# Altium schematic symbol library WE-FB.SchLib: 63 symbols (part 1 of 2)
Pins are listed as number, name and electrical type; pins without a type are passive.

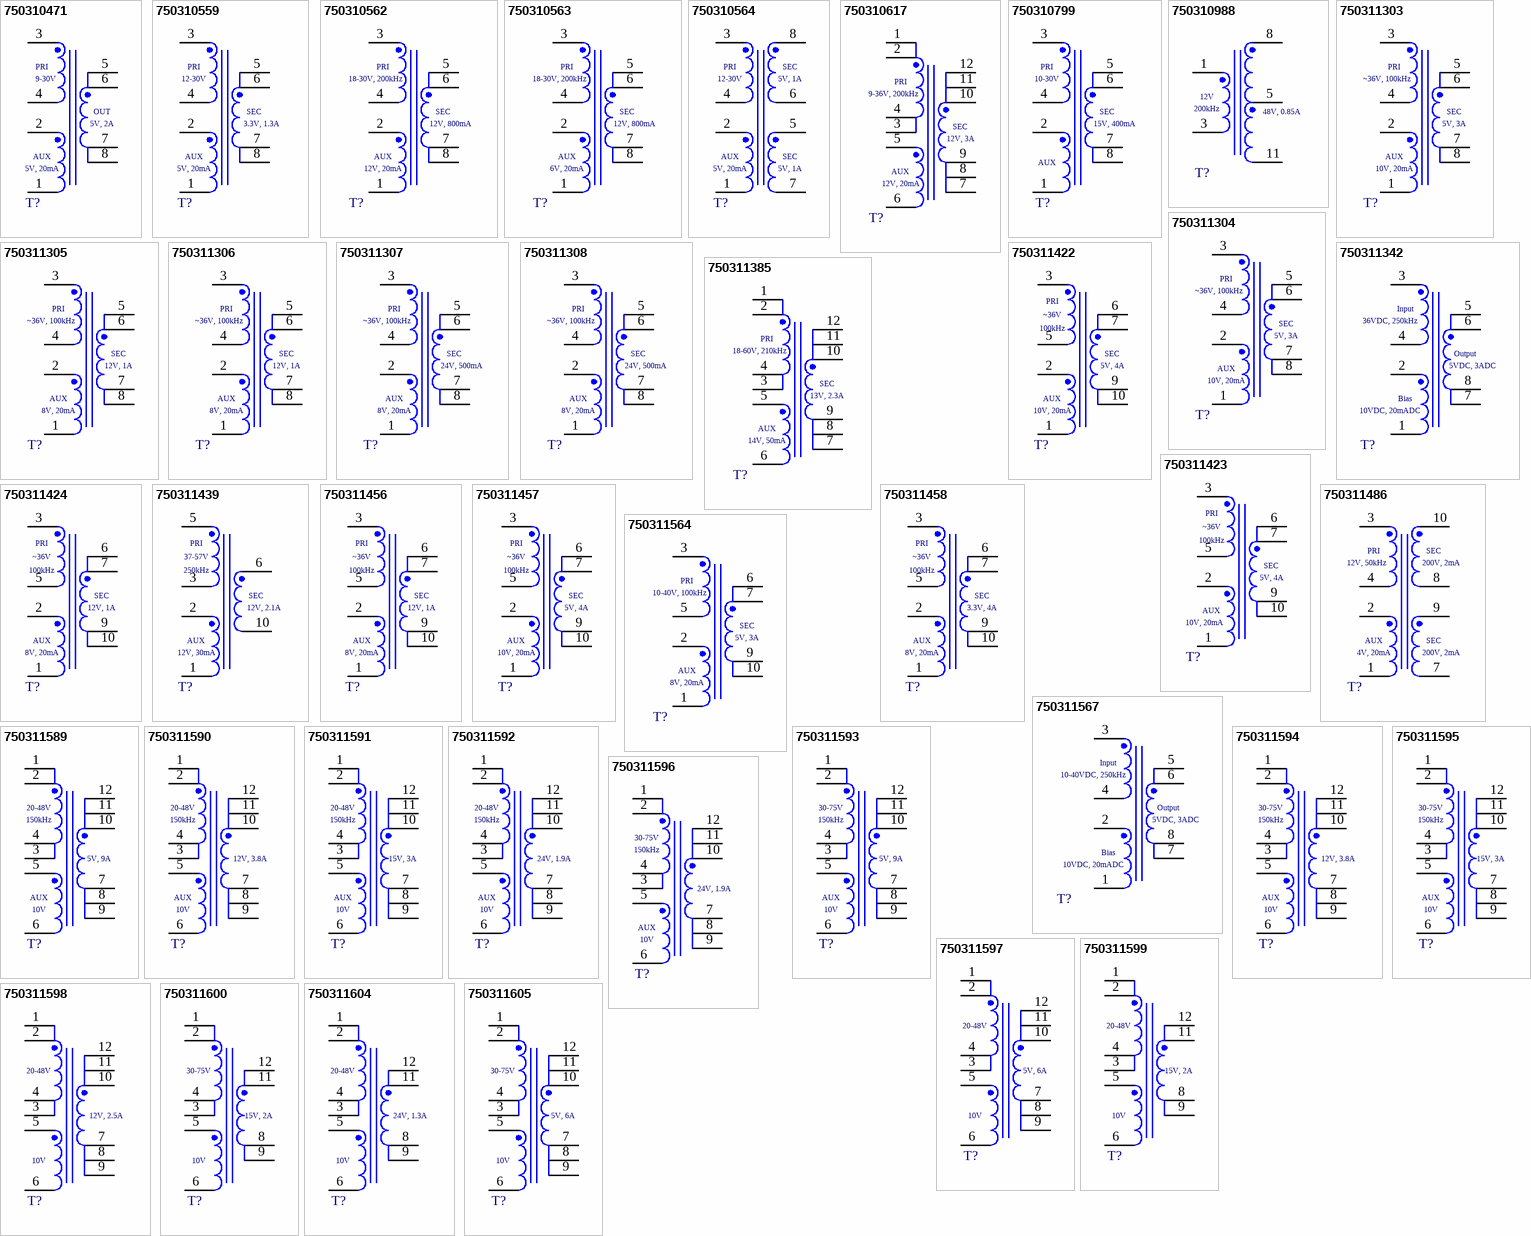
[diagram p0: symbols 750310471 to 750311605]

## 750310471
designator T?, comment 9-30Vin, Uo1 = 5V/2A  (value not drawn)
WE-FB Flyback Transformer suitable for LT3573 & LT3575, SMT, EP10, 9-30Vin, Uo1 = 5V/2A, 10W; Manufacturer Part Number: 750310471; Manufacturer: Wurth Elektronik; Auxiliary Voltage: 5V; Inductance: 25uH; Input Voltage: 9-30VDC; Insulation Test Voltage: 1500VAC; Leakage Inductance: 0.43uH; Output Current 1: 2A; Saturation Current: 2.6A; Turns Ratio: 3:1:1; Category: Transformers For DC-DC Converter; Match Code: WE-FB; ComponentLink1Description: Website Link; ComponentLink1URL: https://www.we-online.com/redexpert/article/750310471?ad; ComponentLink2Description: Datasheet Link; ComponentLink2URL: https://www.we-online.com/redexpert/spec/750310471?ad; Mount: Surface Mount; Operating Temperature Max: 125°C; Operating Temperature Min: -40°C; Packaging: Tape and Reel; Case/Size Code: EP10; Length: 15.24mm; Width: 13.34mm; Height: 11.43mm; IC Reference: LT3573 & LT3575; Output Power: 10W; Output Voltage 1: 5V
footprint WE-FB_EP10
simulation model 750310471
pins: 1, 2, 3, 4, 5, 6, 7, 8
text: 9-30V; PRI; OUT; 5V, 2A; AUX; 5V, 20mA

## 750310559
designator T?, comment 12-30Vin, Uo1 = 3.3V/1.3A  (value not drawn)
WE-FB Flyback Transformer suitable for LT3573 & LT3575, SMT, EP10, 12-30Vin, Uo1 = 3.3V/1.3A, 4.3W; Manufacturer Part Number: 750310559; Manufacturer: Wurth Elektronik; Auxiliary Voltage: 5V; Inductance: 24uH; Input Voltage: 12-30VDC; Insulation Test Voltage: 1500VAC; Leakage Inductance: 0.5uH; Output Current 1: 1.3A; Output Voltage 1: 3.3V; Saturation Current: 2.1A; Turns Ratio: 4:1:1; Category: Transformers For DC-DC Converter; Match Code: WE-FB; ComponentLink1Description: Website Link; ComponentLink1URL: https://www.we-online.com/redexpert/article/750310559?ad; ComponentLink2Description: Datasheet Link; ComponentLink2URL: https://www.we-online.com/redexpert/spec/750310559?ad; Mount: Surface Mount; Operating Temperature Max: 125°C; Operating Temperature Min: -40°C; Packaging: Tape and Reel; Case/Size Code: EP10; Length: 15.24mm; Width: 13.34mm; Height: 11.43mm; IC Reference: LT3573 & LT3575; Output Power: 4.3W
footprint WE-FB_EP10
simulation model 750310559
pins: 1, 2, 3, 4, 5, 6, 7, 8
text: PRI; 12-30V; SEC; 3.3V, 1.3A; AUX; 5V, 20mA

## 750310562
designator T?, comment 18-30Vin, Uo1 = 12V/0.8A  (value not drawn)
WE-FB Flyback Transformer suitable for LT3573 & LT3575, SMT, EP10, 18-30Vin, Uo1 = 12V/0.8A, 10W; Manufacturer Part Number: 750310562; Manufacturer: Wurth Elektronik; Auxiliary Voltage: 12V; Inductance: 25uH; Input Voltage: 18-30VDC; Insulation Test Voltage: 1500VAC; Leakage Inductance: 0.5uH; Output Current 1: 0.8A; Saturation Current: 2.8A; Turns Ratio: 2:1:1; Category: Transformers For DC-DC Converter; Match Code: WE-FB; ComponentLink1Description: Website Link; ComponentLink1URL: https://www.we-online.com/redexpert/article/750310562?ad; ComponentLink2Description: Datasheet Link; ComponentLink2URL: https://www.we-online.com/redexpert/spec/750310562?ad; Mount: Surface Mount; Operating Temperature Max: 125°C; Operating Temperature Min: -40°C; Packaging: Tape and Reel; Case/Size Code: EP10; Length: 15.24mm; Width: 13.34mm; Height: 11.43mm; IC Reference: LT3573 & LT3575; Output Power: 10W; Output Voltage 1: 12V
footprint WE-FB_EP10
simulation model 750310562
pins: 1, 2, 3, 4, 5, 6, 7, 8
text: 18-30V, 200kHz; PRI; SEC; 12V, 800mA; AUX; 12V, 20mA

## 750310563
designator T?, comment 18-30Vin, Uo1 = 12V/0.8A  (value not drawn)
WE-FB Flyback Transformer suitable for LT3573 & LT3575, SMT, EP10, 18-30Vin, Uo1 = 12V/0.8A, 5W; Manufacturer Part Number: 750310563; Manufacturer: Wurth Elektronik; Auxiliary Voltage: 6V; Inductance: 25uH; Input Voltage: 18-30VDC; Insulation Test Voltage: 1500VAC; Leakage Inductance: 0.5uH; Output Current 1: 0.8A; Output Voltage 1: 12V; Saturation Current: 2.8A; Turns Ratio: 1:1:0.5; Category: Transformers For DC-DC Converter; Match Code: WE-FB; ComponentLink1Description: Website Link; ComponentLink1URL: https://www.we-online.com/redexpert/article/750310563?ad; ComponentLink2Description: Datasheet Link; ComponentLink2URL: https://www.we-online.com/redexpert/spec/750310563?ad; Mount: Surface Mount; Operating Temperature Max: 125°C; Operating Temperature Min: -40°C; Packaging: Tape and Reel; Case/Size Code: EP10; Length: 15.24mm; Width: 13.34mm; Height: 11.43mm; IC Reference: LT3573 & LT3575; Output Power: 5W
footprint WE-FB_EP10
simulation model 750310563
pins: 1, 2, 3, 4, 5, 6, 7, 8
text: 18-30V, 200kHz; PRI; SEC; 12V, 800mA; AUX; 6V, 20mA

## 750310564
designator T?, comment 12-30Vin, Uo1 = 5V/1A, Uo2 = 5V/1A  (value not drawn)
WE-FB Flyback Transformer suitable for LT3574 & LT3573 & LT3575, SMT, EP10, 12-30Vin, Uo1 = 5V/1A, Uo2 = 5V/1A, 10W; Manufacturer Part Number: 750310564; Manufacturer: Wurth Elektronik; Auxiliary Voltage: 5V; Inductance: 63uH; Input Voltage: 12-30VDC; Insulation Test Voltage: 1500VAC; Leakage Inductance: 0.6uH; Output Current 1: 1A; Saturation Current: 1.45A; Turns Ratio: 3:1:1:1; Category: Transformers For DC-DC Converter; Match Code: WE-FB; ComponentLink1Description: Website Link; ComponentLink1URL: https://www.we-online.com/redexpert/article/750310564?ad; ComponentLink2Description: Datasheet Link; ComponentLink2URL: https://www.we-online.com/redexpert/spec/750310564?ad; Mount: Surface Mount; Operating Temperature Max: 125°C; Operating Temperature Min: -40°C; Packaging: Tape and Reel; Case/Size Code: EP10; Length: 15.24mm; Width: 13.34mm; Height: 11.43mm; IC Reference: LT3574 & LT3573 & LT3575; Output Current 2: 1A; Output Power: 10W; Output Voltage 1: 5V; Output Voltage 2: 5V
footprint WE-FB_EP10
simulation model 750310564
pins: 1, 2, 3, 4, 5, 6, 7, 8
text: PRI; 12-30V; SEC; 5V, 1A; AUX; 5V, 20mA

## 750310617
designator T?, comment 9-36Vin, Uo1 = 12V/3A  (value not drawn)
WE-FB Flyback Transformer suitable for LT3748, SMT, EFD20, 9-36Vin, Uo1 = 12V/3A, 36W; Manufacturer Part Number: 750310617; Manufacturer: Wurth Elektronik; Auxiliary Voltage: 12V; Inductance: 4.5uH; Input Voltage: 9-36VDC; Insulation Test Voltage: 1875VAC; Leakage Inductance: 0.15uH; Output Current 1: 3A; Saturation Current: 14A; Turns Ratio: 1:1.16:1.16; Category: Transformers For DC-DC Converter; Match Code: WE-FB; ComponentLink1Description: Website Link; ComponentLink1URL: https://www.we-online.com/redexpert/article/750310617?ad; ComponentLink2Description: Datasheet Link; ComponentLink2URL: https://www.we-online.com/redexpert/spec/750310617?ad; Mount: Surface Mount; Operating Temperature Max: 125°C; Operating Temperature Min: -40°C; Packaging: Tape and Reel; Case/Size Code: EFD20; Length: 29.08mm; Width: 23.11mm; Height: 11.43mm; IC Reference: LT3748; Output Power: 36W; Output Voltage 1: 12V
footprint WE-FB_EFD20
simulation model 750310617
pins: 1, 2, 3, 4, 5, 6, 7, 8, 9, 10, 11, 12
text: 9-36V, 200kHz; PRI; 12V, 3A; SEC; 12V, 20mA; AUX

## 750310799
designator T?, comment 10-30Vin, Uo1 = 15V/0.4A  (value not drawn)
WE-FB Flyback Transformer suitable for LT3573, SMT, EP7, 10-30Vin, Uo1 = 15V/0.4A, 6W; Manufacturer Part Number: 750310799; Manufacturer: Wurth Elektronik; Auxiliary Voltage: 5V; Inductance: 25uH; Input Voltage: 10-30VDC; Insulation Test Voltage: 1500VAC; Leakage Inductance: 0.125uH; Output Current 1: 0.4A; Output Voltage 1: 15V; Saturation Current: 2A; Turns Ratio: 1:1:0.333; Category: Transformers For DC-DC Converter; Match Code: WE-FB; ComponentLink1Description: Website Link; ComponentLink1URL: https://www.we-online.com/redexpert/article/750310799?ad; ComponentLink2Description: Datasheet Link; ComponentLink2URL: https://www.we-online.com/redexpert/spec/750310799?ad; Mount: Surface Mount; Operating Temperature Max: 125°C; Operating Temperature Min: -40°C; Packaging: Tape and Reel; Case/Size Code: EP7; Length: 9.14mm; Width: 9.78mm; Height: 10.54mm; IC Reference: LT3573; Output Power: 6W
footprint WE-FB_EP7
simulation model 750310799
pins: 1, 2, 3, 4, 5, 6, 7, 8
text: PRI; 10-30V; SEC; 15V, 400mA; AUX

## 750310988
designator T?, comment 12Vin, Uo1 = 48V/0.85A  (value not drawn)
WE-FB Flyback Transformer suitable for LT3748, SMT, EFD25, 12Vin, Uo1 = 48V/0.85A, 40W; Manufacturer Part Number: 750310988; Manufacturer: Wurth Elektronik; Inductance: 14uH; Input Voltage: 12VDC; Insulation Test Voltage: 1500VAC; Leakage Inductance: 0.2uH; Output Current 1: 0.85A; Output Voltage 1: 48V; Saturation Current: 15A; Turns Ratio: 1:4.42; Category: Transformers For DC-DC Converter; Match Code: WE-FB; ComponentLink1Description: Website Link; ComponentLink1URL: https://www.we-online.com/redexpert/article/750310988?ad; ComponentLink2Description: Datasheet Link; ComponentLink2URL: https://www.we-online.com/redexpert/spec/750310988?ad; Mount: Surface Mount; Operating Temperature Max: 125°C; Operating Temperature Min: -40°C; Packaging: Tape and Reel; Case/Size Code: EFD25; Length: 32.31mm; Width: 27.03mm; Height: 13.69mm; IC Reference: LT3748; Output Power: 40W
footprint WE-FB_EFD25
simulation model 750310988
pins: 1, 3, 5, 8, 11
text: 12V; 200kHz; 48V, 0.85A

## 750311303
designator T?, comment 36Vin, Uo1 = 5V/3A  (value not drawn)
WE-FB Flyback Transformer suitable for LT3575, SMT, EP10, 36Vin, Uo1 = 5V/3A, 15W; Manufacturer Part Number: 750311303; Manufacturer: Wurth Elektronik; Auxiliary Voltage: 10V; Inductance: 50uH; Input Voltage: 36VDC; Insulation Test Voltage: 1500VAC; Leakage Inductance: 1.5uH; Output Current 1: 3A; Output Voltage 1: 5V; Saturation Current: 2.25A; Turns Ratio: 5:1:2; Category: Transformers For DC-DC Converter; Match Code: WE-FB; ComponentLink1Description: Website Link; ComponentLink1URL: https://www.we-online.com/redexpert/article/750311303?ad; ComponentLink2Description: Datasheet Link; ComponentLink2URL: https://www.we-online.com/redexpert/spec/750311303?ad; Mount: Surface Mount; Operating Temperature Max: 125°C; Operating Temperature Min: -40°C; Packaging: Tape and Reel; Case/Size Code: EP10; Length: 15.24mm; Width: 13.34mm; Height: 11.43mm; IC Reference: LT3575; Output Power: 15W
footprint WE-FB_EP10
simulation model 750311303
pins: 1, 2, 3, 4, 5, 6, 7, 8
text: ~36V, 100kHz; PRI; SEC; 5V, 3A; AUX; 10V, 20mA

## 750311304
designator T?, comment 36Vin, Uo1 = 5V/3A  (value not drawn)
WE-FB Flyback Transformer suitable for LT3574 & LT3575, SMT, EP10, 36Vin, Uo1 = 5V/3A, 15W; Manufacturer Part Number: 750311304; Manufacturer: Wurth Elektronik; Auxiliary Voltage: 10V; Inductance: 50uH; Input Voltage: 36VDC; Insulation Test Voltage: 1500VAC; Leakage Inductance: 1.5uH; Output Current 1: 3A; Output Voltage 1: 5V; Saturation Current: 2.4A; Turns Ratio: 4:1:1.5; Category: Transformers For DC-DC Converter; Match Code: WE-FB; ComponentLink1Description: Website Link; ComponentLink1URL: https://www.we-online.com/redexpert/article/750311304?ad; ComponentLink2Description: Datasheet Link; ComponentLink2URL: https://www.we-online.com/redexpert/spec/750311304?ad; Mount: Surface Mount; Operating Temperature Max: 125°C; Operating Temperature Min: -40°C; Packaging: Tape and Reel; Case/Size Code: EP10; Length: 15.24mm; Width: 13.34mm; Height: 11.43mm; IC Reference: LT3574 & LT3575; Output Power: 15W
footprint WE-FB_EP10
simulation model 750311304
pins: 1, 2, 3, 4, 5, 6, 7, 8
text: ~36V, 100kHz; PRI; SEC; 5V, 3A; AUX; 10V, 20mA

## 750311305
designator T?, comment 36Vin, Uo1 = 12V/1A  (value not drawn)
WE-FB Flyback Transformer suitable for LT3575, SMT, EP10, 36Vin, Uo1 = 12V/1A, 12W; Manufacturer Part Number: 750311305; Manufacturer: Wurth Elektronik; Auxiliary Voltage: 8V; Inductance: 50uH; Input Voltage: 36VDC; Insulation Test Voltage: 1500VAC; Leakage Inductance: 2uH; Output Current 1: 1A; Output Voltage 1: 12V; Saturation Current: 2.8A; Turns Ratio: 3:1:0.667; Category: Transformers For DC-DC Converter; Match Code: WE-FB; ComponentLink1Description: Website Link; ComponentLink1URL: https://www.we-online.com/redexpert/article/750311305?ad; ComponentLink2Description: Datasheet Link; ComponentLink2URL: https://www.we-online.com/redexpert/spec/750311305?ad; Mount: Surface Mount; Operating Temperature Max: 125°C; Operating Temperature Min: -40°C; Packaging: Tape and Reel; Case/Size Code: EP10; Length: 15.24mm; Width: 13.34mm; Height: 11.43mm; IC Reference: LT3575; Output Power: 12W
footprint WE-FB_EP10
simulation model 750311305
pins: 1, 2, 3, 4, 5, 6, 7, 8
text: ~36V, 100kHz; PRI; SEC; 12V, 1A; AUX; 8V, 20mA

## 750311306
designator T?, comment 9-30Vin, Uo1 = 12V/1A  (value not drawn)
WE-FB Flyback Transformer suitable for LT3575, SMT, EP10, 9-30Vin, Uo1 = 12V/1A, 12W; Manufacturer Part Number: 750311306; Manufacturer: Wurth Elektronik; Auxiliary Voltage: 8V; Inductance: 100uH; Input Voltage: 9-30VDC; Insulation Test Voltage: 1500VAC; Leakage Inductance: 3uH; Output Current 1: 1A; Output Voltage 1: 12V; Saturation Current: 1.65A; Turns Ratio: 3:1:0.667; Category: Transformers For DC-DC Converter; Match Code: WE-FB; ComponentLink1Description: Website Link; ComponentLink1URL: https://www.we-online.com/redexpert/article/750311306?ad; ComponentLink2Description: Datasheet Link; ComponentLink2URL: https://www.we-online.com/redexpert/spec/750311306?ad; Mount: Surface Mount; Operating Temperature Max: 125°C; Operating Temperature Min: -40°C; Packaging: Tape and Reel; Case/Size Code: EP10; Length: 15.24mm; Width: 13.34mm; Height: 11.43mm; IC Reference: LT3575; Output Power: 12W
footprint WE-FB_EP10
simulation model 750311306
pins: 1, 2, 3, 4, 5, 6, 7, 8
text: ~36V, 100kHz; PRI; SEC; 12V, 1A; AUX; 8V, 20mA

## 750311307
designator T?, comment 9-30Vin, Uo1 = 24V/0.5A  (value not drawn)
WE-FB Flyback Transformer suitable for LT3574 & LT3575, SMT, EP10, 9-30Vin, Uo1 = 24V/0.5A, 12W; Manufacturer Part Number: 750311307; Manufacturer: Wurth Elektronik; Auxiliary Voltage: 8V; Inductance: 100uH; Input Voltage: 9-30VDC; Insulation Test Voltage: 1500VAC; Leakage Inductance: 3uH; Output Current 1: 0.5A; Output Voltage 1: 24V; Saturation Current: 1.9A; Turns Ratio: 2:1:0.333; Category: Transformers For DC-DC Converter; Match Code: WE-FB; ComponentLink1Description: Website Link; ComponentLink1URL: https://www.we-online.com/redexpert/article/750311307?ad; ComponentLink2Description: Datasheet Link; ComponentLink2URL: https://www.we-online.com/redexpert/spec/750311307?ad; Mount: Surface Mount; Operating Temperature Max: 125°C; Operating Temperature Min: -40°C; Packaging: Tape and Reel; Case/Size Code: EP10; Length: 15.24mm; Width: 13.34mm; Height: 11.43mm; IC Reference: LT3574 & LT3575; Output Power: 12W
footprint WE-FB_EP10
simulation model 750311307
pins: 1, 2, 3, 4, 5, 6, 7, 8
text: ~36V, 100kHz; PRI; SEC; 24V, 500mA; AUX; 8V, 20mA

## 750311308
designator T?, comment 9-30Vin, Uo1 = 24V/0.5A  (value not drawn)
WE-FB Flyback Transformer suitable for LT3574 & LT3575, SMT, EP10, 9-30Vin, Uo1 = 24V/0.5A, 12W; Manufacturer Part Number: 750311308; Manufacturer: Wurth Elektronik; Auxiliary Voltage: 8V; Inductance: 100uH; Input Voltage: 9-30VDC; Insulation Test Voltage: 1500VAC; Leakage Inductance: 3uH; Output Current 1: 0.5A; Output Voltage 1: 24V; Saturation Current: 2.1A; Turns Ratio: 1:1:0.333; Category: Transformers For DC-DC Converter; Match Code: WE-FB; ComponentLink1Description: Website Link; ComponentLink1URL: https://www.we-online.com/redexpert/article/750311308?ad; ComponentLink2Description: Datasheet Link; ComponentLink2URL: https://www.we-online.com/redexpert/spec/750311308?ad; Mount: Surface Mount; Operating Temperature Max: 125°C; Operating Temperature Min: -40°C; Packaging: Tape and Reel; Case/Size Code: EP10; Length: 15.24mm; Width: 13.34mm; Height: 11.43mm; IC Reference: LT3574 & LT3575; Output Power: 12W
footprint WE-FB_EP10
simulation model 750311308
pins: 1, 2, 3, 4, 5, 6, 7, 8
text: ~36V, 100kHz; PRI; SEC; 24V, 500mA; AUX; 8V, 20mA

## 750311342
designator T?, comment 36Vin, Uo1 = 5V/3A  (value not drawn)
WE-FB Flyback Transformer suitable for LT3575, SMT, EP10, 36Vin, Uo1 = 5V/3A, 15W; Manufacturer Part Number: 750311342; Manufacturer: Wurth Elektronik; Auxiliary Voltage: 10V; Inductance: 15uH; Input Voltage: 36VDC; Insulation Test Voltage: 1500VAC; Leakage Inductance: 0.65uH; Output Current 1: 3A; Output Voltage 1: 5V; Saturation Current: 5.8A; Turns Ratio: 2:1:2; Category: Transformers For DC-DC Converter; Match Code: WE-FB; ComponentLink1Description: Website Link; ComponentLink1URL: https://www.we-online.com/redexpert/article/750311342?ad; ComponentLink2Description: Datasheet Link; ComponentLink2URL: https://www.we-online.com/redexpert/spec/750311342?ad; Mount: Surface Mount; Operating Temperature Max: 125°C; Operating Temperature Min: -40°C; Packaging: Tape and Reel; Case/Size Code: EP10; Length: 15.24mm; Width: 13.34mm; Height: 11.43mm; IC Reference: LT3575; Output Power: 15W
footprint WE-FB_EP10
simulation model 750311342
pins: 1, 2, 3, 4, 5, 6, 7, 8
text: 36VDC, 250kHz; Input; Output; 5VDC, 3ADC; 10VDC, 20mADC; Bias

## 750311385
designator T?, comment 18-60Vin, Uo1 = 13V/2.3A  (value not drawn)
WE-FB Flyback Transformer suitable for LT3748, SMT, EFD20, 18-60Vin, Uo1 = 13V/2.3A, 30W; Manufacturer Part Number: 750311385; Manufacturer: Wurth Elektronik; Auxiliary Voltage: 14V; Inductance: 15uH; Input Voltage: 18-60VDC; Insulation Test Voltage: 1500VAC; Leakage Inductance: 0.2uH; Output Current 1: 2.3A; Output Voltage 1: 13V; Saturation Current: 6.75A; Turns Ratio: 1.25:1:1:1; Category: Transformers For DC-DC Converter; Match Code: WE-FB; ComponentLink1Description: Website Link; ComponentLink1URL: https://www.we-online.com/redexpert/article/750311385?ad; ComponentLink2Description: Datasheet Link; ComponentLink2URL: https://www.we-online.com/redexpert/spec/750311385?ad; Mount: Surface Mount; Operating Temperature Max: 125°C; Operating Temperature Min: -40°C; Packaging: Tape and Reel; Case/Size Code: EFD20; Length: 29.08mm; Width: 23.11mm; Height: 11.43mm; IC Reference: LT3748; Output Power: 30W
footprint WE-FB_EFD20
simulation model 750311385
pins: 1, 2, 3, 4, 5, 6, 7, 8, 9, 10, 11, 12
text: 18-60V, 210kHz; PRI; 13V, 2.3A; SEC; 14V, 50mA; AUX

## 750311422
designator T?, comment 36Vin, Uo1 = 5V/4A  (value not drawn)
WE-FB Flyback Transformer suitable for LT3575 & LT3748, SMT, EP13, 36Vin, Uo1 = 5V/4A, 20W; Manufacturer Part Number: 750311422; Manufacturer: Wurth Elektronik; Auxiliary Voltage: 10V; Inductance: 50uH; Input Voltage: 36VDC; Insulation Test Voltage: 1500VAC; Leakage Inductance: 1.2uH; Output Current 1: 4A; Output Voltage 1: 5V; Saturation Current: 3.3A; Turns Ratio: 5:1:2; Category: Transformers For DC-DC Converter; Match Code: WE-FB; ComponentLink1Description: Website Link; ComponentLink1URL: https://www.we-online.com/redexpert/article/750311422?ad; ComponentLink2Description: Datasheet Link; ComponentLink2URL: https://www.we-online.com/redexpert/spec/750311422?ad; Mount: Surface Mount; Operating Temperature Max: 125°C; Operating Temperature Min: -40°C; Packaging: Tape and Reel; Case/Size Code: EP13; Length: 17.75mm; Width: 13.46mm; Height: 12.7mm; IC Reference: LT3575 & LT3748; Output Power: 20W
footprint WE-FB_EP13
simulation model 750311422
pins: 1, 2, 3, 5, 6, 7, 9, 10
text: PRI; ~36V; 100kHz; SEC; 5V, 4A; AUX; 10V, 20mA

## 750311423
designator T?, comment 36Vin, Uo1 = 5V/4A  (value not drawn)
WE-FB Flyback Transformer suitable for LT3575 & LT3748, SMT, EP13, 36Vin, Uo1 = 5V/4A, 20W; Manufacturer Part Number: 750311423; Manufacturer: Wurth Elektronik; Auxiliary Voltage: 10V; Inductance: 50uH; Input Voltage: 36VDC; Insulation Test Voltage: 1500VAC; Leakage Inductance: 1.2uH; Output Current 1: 4A; Output Voltage 1: 5V; Saturation Current: 3.85A; Turns Ratio: 4:1:2; Category: Transformers For DC-DC Converter; Match Code: WE-FB; ComponentLink1Description: Website Link; ComponentLink1URL: https://www.we-online.com/redexpert/article/750311423?ad; ComponentLink2Description: Datasheet Link; ComponentLink2URL: https://www.we-online.com/redexpert/spec/750311423?ad; Mount: Surface Mount; Operating Temperature Max: 125°C; Operating Temperature Min: -40°C; Packaging: Tape and Reel; Case/Size Code: EP13; Length: 17.75mm; Width: 13.46mm; Height: 12.7mm; IC Reference: LT3575 & LT3748; Output Power: 20W
footprint WE-FB_EP13
simulation model 750311423
pins: 1, 2, 3, 5, 6, 7, 9, 10
text: PRI; ~36V; 100kHz; SEC; 5V, 4A; 10V, 20mA; AUX

## 750311424
designator T?, comment 36Vin, Uo1 = 12V/1A  (value not drawn)
WE-FB Flyback Transformer suitable for LT3748, SMT, EP13, 36Vin, Uo1 = 12V/1A, 12W; Manufacturer Part Number: 750311424; Manufacturer: Wurth Elektronik; Auxiliary Voltage: 8V; Inductance: 100uH; Input Voltage: 36VDC; Insulation Test Voltage: 1500VAC; Leakage Inductance: 1.5uH; Output Current 1: 1A; Output Voltage 1: 12V; Saturation Current: 2.4A; Turns Ratio: 3:1:0.667; Category: Transformers For DC-DC Converter; Match Code: WE-FB; ComponentLink1Description: Website Link; ComponentLink1URL: https://www.we-online.com/redexpert/article/750311424?ad; ComponentLink2Description: Datasheet Link; ComponentLink2URL: https://www.we-online.com/redexpert/spec/750311424?ad; Mount: Surface Mount; Operating Temperature Max: 125°C; Operating Temperature Min: -40°C; Packaging: Tape and Reel; Case/Size Code: EP13; Length: 17.75mm; Width: 13.46mm; Height: 12.7mm; IC Reference: LT3748; Output Power: 12W
footprint WE-FB_EP13
simulation model 750311424
pins: 1, 2, 3, 5, 6, 7, 9, 10
text: PRI; ~36V; 100kHz; SEC; 12V, 1A; AUX; 8V, 20mA

## 750311439
designator T?, comment 37-57Vin, Uo1 = 12V/2.1A  (value not drawn)
WE-FB Flyback Transformer suitable for LT3575 & LT3748, SMT, EP13, 37-57Vin, Uo1 = 12V/2.1A, 24W; Manufacturer Part Number: 750311439; Manufacturer: Wurth Elektronik; Auxiliary Voltage: 12V; Inductance: 37uH; Input Voltage: 37-57VDC; Insulation Test Voltage: 1500VAC; Leakage Inductance: 0.75uH; Output Current 1: 2.1A; Saturation Current: 2.8A; Turns Ratio: 2:1:1.1; Category: Transformers For DC-DC Converter; Match Code: WE-FB; ComponentLink1Description: Website Link; ComponentLink1URL: https://www.we-online.com/redexpert/article/750311439?ad; ComponentLink2Description: Datasheet Link; ComponentLink2URL: https://www.we-online.com/redexpert/spec/750311439?ad; Mount: Surface Mount; Operating Temperature Max: 125°C; Operating Temperature Min: -40°C; Packaging: Tape and Reel; Case/Size Code: EP13; Length: 17.75mm; Width: 13.46mm; Height: 12.7mm; IC Reference: LT3575 & LT3748; Output Power: 24W; Output Voltage 1: 12V
footprint WE-FB_EP13
simulation model 750311439
pins: 1, 2, 3, 5, 6, 10
text: PRI; 37-57V; 250kHz; SEC; 12V, 2.1A; AUX; 12V, 30mA

## 750311456
designator T?, comment 36Vin, Uo1 = 12V/1A  (value not drawn)
WE-FB Flyback Transformer suitable for LT3748, SMT, EP13, 36Vin, Uo1 = 12V/1A, 12W; Manufacturer Part Number: 750311456; Manufacturer: Wurth Elektronik; Auxiliary Voltage: 8V; Inductance: 100uH; Input Voltage: 36VDC; Insulation Test Voltage: 2500VAC; Leakage Inductance: 1.5uH; Output Current 1: 1A; Output Voltage 1: 12V; Saturation Current: 2.4A; Turns Ratio: 3:1:0.667; Category: Transformers For DC-DC Converter; Match Code: WE-FB; ComponentLink1Description: Website Link; ComponentLink1URL: https://www.we-online.com/redexpert/article/750311456?ad; ComponentLink2Description: Datasheet Link; ComponentLink2URL: https://www.we-online.com/redexpert/spec/750311456?ad; Mount: Surface Mount; Operating Temperature Max: 125°C; Operating Temperature Min: -40°C; Packaging: Tape and Reel; Case/Size Code: EP13; Length: 17.75mm; Width: 13.46mm; Height: 12.7mm; IC Reference: LT3748; Output Power: 12W
footprint WE-FB_EP13
simulation model 750311456
pins: 1, 2, 3, 5, 6, 7, 9, 10
text: PRI; ~36V; 100kHz; 12V, 1A; SEC; AUX; 8V, 20mA

## 750311457
designator T?, comment 36Vin, Uo1 = 5V/4A  (value not drawn)
WE-FB Flyback Transformer suitable for LT3575 & LT3748, SMT, EP13, 36Vin, Uo1 = 5V/4A, 20W; Manufacturer Part Number: 750311457; Manufacturer: Wurth Elektronik; Auxiliary Voltage: 10V; Inductance: 50uH; Input Voltage: 36VDC; Insulation Test Voltage: 2500VAC; Leakage Inductance: 1.2uH; Output Current 1: 4A; Output Voltage 1: 5V; Saturation Current: 3.7A; Turns Ratio: 4:1:2; Category: Transformers For DC-DC Converter; Match Code: WE-FB; ComponentLink1Description: Website Link; ComponentLink1URL: https://www.we-online.com/redexpert/article/750311457?ad; ComponentLink2Description: Datasheet Link; ComponentLink2URL: https://www.we-online.com/redexpert/spec/750311457?ad; Mount: Surface Mount; Operating Temperature Max: 125°C; Operating Temperature Min: -40°C; Packaging: Tape and Reel; Case/Size Code: EP13; Length: 17.75mm; Width: 13.46mm; Height: 12.7mm; IC Reference: LT3575 & LT3748; Output Power: 20W
footprint WE-FB_EP13
simulation model 750311457
pins: 1, 2, 3, 5, 6, 7, 9, 10
text: PRI; ~36V; 100kHz; SEC; 5V, 4A; AUX; 10V, 20mA

## 750311458
designator T?, comment 36Vin, Uo1 = 3.3V/4A  (value not drawn)
WE-FB Flyback Transformer suitable for LT3575 & LT3748, SMT, EP13, 36Vin, Uo1 = 3.3V/4A, 13W; Manufacturer Part Number: 750311458; Manufacturer: Wurth Elektronik; Auxiliary Voltage: 8V; Inductance: 15uH; Input Voltage: 36VDC; Insulation Test Voltage: 2500VAC; Leakage Inductance: 0.3uH; Output Current 1: 4A; Output Voltage 1: 3.3V; Saturation Current: 5A; Turns Ratio: 3:1:2.5; Category: Transformers For DC-DC Converter; Match Code: WE-FB; ComponentLink1Description: Website Link; ComponentLink1URL: https://www.we-online.com/redexpert/article/750311458?ad; ComponentLink2Description: Datasheet Link; ComponentLink2URL: https://www.we-online.com/redexpert/spec/750311458?ad; Mount: Surface Mount; Operating Temperature Max: 125°C; Operating Temperature Min: -40°C; Packaging: Tape and Reel; Case/Size Code: EP13; Length: 17.75mm; Width: 13.46mm; Height: 12.7mm; IC Reference: LT3575 & LT3748; Output Power: 13W
footprint WE-FB_EP13
simulation model 750311458
pins: 1, 2, 3, 5, 6, 7, 9, 10
text: PRI; ~36V; 100kHz; SEC; 3.3V, 4A; AUX; 8V, 20mA

## 750311486
designator T?, comment 12Vin, Uo1 = 200V/0.002A, Uo2 = 200V/0.002A  (value not drawn)
WE-FB Flyback Transformer suitable for LT3748, SMT, EP13, 12Vin, Uo1 = 200V/0.002A, Uo2 = 200V/0.002A, 0.8W; Manufacturer Part Number: 750311486; Manufacturer: Wurth Elektronik; Auxiliary Voltage: 4V; Inductance: 100uH; Input Voltage: 12VDC; Insulation Test Voltage: 1500VAC; Leakage Inductance: 4.5uH; Output Current 1: 0.002A; Output Voltage 1: 200V; Saturation Current: 2A; Turns Ratio: 1:10:10:2.19; Category: Transformers For DC-DC Converter; Match Code: WE-FB; ComponentLink1Description: Website Link; ComponentLink1URL: https://www.we-online.com/redexpert/article/750311486?ad; ComponentLink2Description: Datasheet Link; ComponentLink2URL: https://www.we-online.com/redexpert/spec/750311486?ad; Mount: Surface Mount; Operating Temperature Max: 125°C; Operating Temperature Min: -40°C; Packaging: Tape and Reel; Case/Size Code: EP13; Length: 17.75mm; Width: 13.46mm; Height: 12.7mm; IC Reference: LT3748; Output Current 2: 0.002A; Output Power: 0.8W; Output Voltage 2: 200V
footprint WE-FB_EP13
simulation model 750311486
pins: 1, 2, 3, 4, 7, 8, 9, 10
text: 12V, 50kHz; PRI; SEC; 200V, 2mA; AUX; 4V, 20mA

## 750311564
designator T?, comment 10-40Vin, Uo1 = 5V/3A  (value not drawn)
WE-FB Flyback Transformer suitable for LT3575 & LT3748, SMT, EP13, 10-40Vin, Uo1 = 5V/3A, 15W; Manufacturer Part Number: 750311564; Manufacturer: Wurth Elektronik; Auxiliary Voltage: 8V; Inductance: 9.07uH; Input Voltage: 10-40VDC; Insulation Test Voltage: 1500VAC; Leakage Inductance: 0.25uH; Output Current 1: 3A; Output Voltage 1: 5V; Saturation Current: 8A; Turns Ratio: 3:1:1.75; Category: Transformers For DC-DC Converter; Match Code: WE-FB; ComponentLink1Description: Website Link; ComponentLink1URL: https://www.we-online.com/redexpert/article/750311564?ad; ComponentLink2Description: Datasheet Link; ComponentLink2URL: https://www.we-online.com/redexpert/spec/750311564?ad; Mount: Surface Mount; Operating Temperature Max: 125°C; Operating Temperature Min: -40°C; Packaging: Tape and Reel; Case/Size Code: EP13; Length: 17.75mm; Width: 13.46mm; Height: 12.7mm; IC Reference: LT3575 & LT3748; Output Power: 15W
footprint WE-FB_EP13
simulation model 750311564
pins: 1, 2, 3, 5, 6, 7, 9, 10
text: 10-40V, 100kHz; PRI; SEC; 5V, 3A; AUX; 8V, 20mA

## 750311567
designator T?, comment 10-40Vin, Uo1 = 5V/3A  (value not drawn)
WE-FB Flyback Transformer suitable for LT3575 & LT3748, SMT, EP10, 10-40Vin, Uo1 = 5V/3A, 15W; Manufacturer Part Number: 750311567; Manufacturer: Wurth Elektronik; Auxiliary Voltage: 10V; Inductance: 7uH; Input Voltage: 10-40VDC; Insulation Test Voltage: 1500VAC; Leakage Inductance: 0.8uH; Output Current 1: 3A; Output Voltage 1: 5V; Saturation Current: 11.2A; Turns Ratio: 2:1:2; Category: Transformers For DC-DC Converter; Match Code: WE-FB; ComponentLink1Description: Website Link; ComponentLink1URL: https://www.we-online.com/redexpert/article/750311567?ad; ComponentLink2Description: Datasheet Link; ComponentLink2URL: https://www.we-online.com/redexpert/spec/750311567?ad; Mount: Surface Mount; Operating Temperature Max: 125°C; Operating Temperature Min: -40°C; Packaging: Tape and Reel; Case/Size Code: EP10; Length: 15.24mm; Width: 13.34mm; Height: 11.43mm; IC Reference: LT3575 & LT3748; Output Power: 15W
footprint WE-FB_EP10
simulation model 750311567
pins: 1, 2, 3, 4, 5, 6, 7, 8
text: 10-40VDC, 250kHz; Input; Output; 5VDC, 3ADC; 10VDC, 20mADC; Bias

## 750311589
designator T?, comment 20-48Vin, Uo1 = 5V/9A  (value not drawn)
WE-FB Flyback Transformer suitable for LT3748, SMT, EFD25, 20-48Vin, Uo1 = 5V/9A, 45W; Manufacturer Part Number: 750311589; Manufacturer: Wurth Elektronik; Auxiliary Voltage: 10V; Inductance: 6uH; Input Voltage: 20-48VDC; Insulation Test Voltage: 1500VAC; Leakage Inductance: 0.4uH; Output Current 1: 9A; Output Voltage 1: 5V; Saturation Current: 18A; Turns Ratio: 3:1:2; Category: Transformers For DC-DC Converter; Match Code: WE-FB; ComponentLink1Description: Website Link; ComponentLink1URL: https://www.we-online.com/redexpert/article/750311589?ad; ComponentLink2Description: Datasheet Link; ComponentLink2URL: https://www.we-online.com/redexpert/spec/750311589?ad; Mount: Surface Mount; Operating Temperature Max: 125°C; Operating Temperature Min: -40°C; Packaging: Tape and Reel; Case/Size Code: EFD25; Length: 32.31mm; Width: 27.03mm; Height: 13.69mm; IC Reference: LT3748; Output Power: 45W
footprint WE-FB_EFD25
simulation model 750311589
pins: 1, 2, 3, 4, 5, 6, 7, 8, 9, 10, 11, 12
text: 20-48V; 150kHz; 5V, 9A; AUX

## 750311590
designator T?, comment 20-48Vin, Uo1 = 12V/3.8A  (value not drawn)
WE-FB Flyback Transformer suitable for LT3748, SMT, EFD25, 20-48Vin, Uo1 = 12V/3.8A, 45W; Manufacturer Part Number: 750311590; Manufacturer: Wurth Elektronik; Auxiliary Voltage: 10V; Inductance: 8uH; Input Voltage: 20-48VDC; Insulation Test Voltage: 1500VAC; Leakage Inductance: 0.4uH; Output Current 1: 3.8A; Output Voltage 1: 12V; Saturation Current: 18A; Turns Ratio: 2:1:1; Category: Transformers For DC-DC Converter; Match Code: WE-FB; ComponentLink1Description: Website Link; ComponentLink1URL: https://www.we-online.com/redexpert/article/750311590?ad; ComponentLink2Description: Datasheet Link; ComponentLink2URL: https://www.we-online.com/redexpert/spec/750311590?ad; Mount: Surface Mount; Operating Temperature Max: 125°C; Operating Temperature Min: -40°C; Packaging: Tape and Reel; Case/Size Code: EFD25; Length: 32.31mm; Width: 27.03mm; Height: 13.69mm; IC Reference: LT3748; Output Power: 45W
footprint WE-FB_EFD25
simulation model 750311590
pins: 1, 2, 3, 4, 5, 6, 7, 8, 9, 10, 11, 12
text: 20-48V; 150kHz; 12V, 3.8A; AUX

## 750311591
designator T?, comment 20-48Vin, Uo1 = 15V/3A  (value not drawn)
WE-FB Flyback Transformer suitable for LT3748, SMT, EFD25, 20-48Vin, Uo1 = 15V/3A, 45W; Manufacturer Part Number: 750311591; Manufacturer: Wurth Elektronik; Auxiliary Voltage: 10V; Inductance: 8uH; Input Voltage: 20-48VDC; Insulation Test Voltage: 1500VAC; Leakage Inductance: 0.4uH; Output Current 1: 3A; Output Voltage 1: 15V; Saturation Current: 20A; Turns Ratio: 1.5:1:0.67; Category: Transformers For DC-DC Converter; Match Code: WE-FB; ComponentLink1Description: Website Link; ComponentLink1URL: https://www.we-online.com/redexpert/article/750311591?ad; ComponentLink2Description: Datasheet Link; ComponentLink2URL: https://www.we-online.com/redexpert/spec/750311591?ad; Mount: Surface Mount; Operating Temperature Max: 125°C; Operating Temperature Min: -40°C; Packaging: Tape and Reel; Case/Size Code: EFD25; Length: 32.31mm; Width: 27.03mm; Height: 13.69mm; IC Reference: LT3748; Output Power: 45W
footprint WE-FB_EFD25
simulation model 750311591
pins: 1, 2, 3, 4, 5, 6, 7, 8, 9, 10, 11, 12
text: 20-48V; 150kHz; 15V, 3A; AUX

## 750311592
designator T?, comment 20-48Vin, Uo1 = 24V/1.9A  (value not drawn)
WE-FB Flyback Transformer suitable for LT3748, SMT, EFD25, 20-48Vin, Uo1 = 24V/1.9A, 45W; Manufacturer Part Number: 750311592; Manufacturer: Wurth Elektronik; Auxiliary Voltage: 10V; Inductance: 8uH; Input Voltage: 20-48VDC; Insulation Test Voltage: 1500VAC; Leakage Inductance: 0.4uH; Output Current 1: 1.9A; Output Voltage 1: 24V; Saturation Current: 18A; Turns Ratio: 1:1:0.44; Category: Transformers For DC-DC Converter; Match Code: WE-FB; ComponentLink1Description: Website Link; ComponentLink1URL: https://www.we-online.com/redexpert/article/750311592?ad; ComponentLink2Description: Datasheet Link; ComponentLink2URL: https://www.we-online.com/redexpert/spec/750311592?ad; Mount: Surface Mount; Operating Temperature Max: 125°C; Operating Temperature Min: -40°C; Packaging: Tape and Reel; Case/Size Code: EFD25; Length: 32.31mm; Width: 27.03mm; Height: 13.69mm; IC Reference: LT3748; Output Power: 45W
footprint WE-FB_EFD25
simulation model 750311592
pins: 1, 2, 3, 4, 5, 6, 7, 8, 9, 10, 11, 12
text: 20-48V; 150kHz; 24V, 1.9A; AUX

## 750311593
designator T?, comment 30-75Vin, Uo1 = 5V/9A  (value not drawn)
WE-FB Flyback Transformer suitable for LT3748, SMT, EFD25, 30-75Vin, Uo1 = 5V/9A, 45W; Manufacturer Part Number: 750311593; Manufacturer: Wurth Elektronik; Auxiliary Voltage: 10V; Inductance: 15uH; Input Voltage: 30-75VDC; Insulation Test Voltage: 1500VAC; Leakage Inductance: 0.4uH; Output Current 1: 9A; Output Voltage 1: 5V; Saturation Current: 18A; Turns Ratio: 3.5:1:2; Category: Transformers For DC-DC Converter; Match Code: WE-FB; ComponentLink1Description: Website Link; ComponentLink1URL: https://www.we-online.com/redexpert/article/750311593?ad; ComponentLink2Description: Datasheet Link; ComponentLink2URL: https://www.we-online.com/redexpert/spec/750311593?ad; Mount: Surface Mount; Operating Temperature Max: 125°C; Operating Temperature Min: -40°C; Packaging: Tape and Reel; Case/Size Code: EFD25; Length: 32.31mm; Width: 27.03mm; Height: 13.69mm; IC Reference: LT3748; Output Power: 45W
footprint WE-FB_EFD25
simulation model 750311593
pins: 1, 2, 3, 4, 5, 6, 7, 8, 9, 10, 11, 12
text: 30-75V; 150kHz; 5V, 9A; AUX

## 750311594
designator T?, comment 30-75Vin, Uo1 = 12V/3.8A  (value not drawn)
WE-FB Flyback Transformer suitable for LT3748, SMT, EFD25, 30-75Vin, Uo1 = 12V/3.8A, 45W; Manufacturer Part Number: 750311594; Manufacturer: Wurth Elektronik; Auxiliary Voltage: 10V; Inductance: 15uH; Input Voltage: 30-75VDC; Insulation Test Voltage: 1500VAC; Leakage Inductance: 0.55uH; Output Current 1: 3.8A; Output Voltage 1: 12V; Saturation Current: 18A; Turns Ratio: 2.33:1:0.83; Category: Transformers For DC-DC Converter; Match Code: WE-FB; ComponentLink1Description: Website Link; ComponentLink1URL: https://www.we-online.com/redexpert/article/750311594?ad; ComponentLink2Description: Datasheet Link; ComponentLink2URL: https://www.we-online.com/redexpert/spec/750311594?ad; Mount: Surface Mount; Operating Temperature Max: 125°C; Operating Temperature Min: -40°C; Packaging: Tape and Reel; Case/Size Code: EFD25; Length: 32.31mm; Width: 27.03mm; Height: 13.69mm; IC Reference: LT3748; Output Power: 45W
footprint WE-FB_EFD25
simulation model 750311594
pins: 1, 2, 3, 4, 5, 6, 7, 8, 9, 10, 11, 12
text: 30-75V; 150kHz; 12V, 3.8A; AUX

## 750311595
designator T?, comment 30-75Vin, Uo1 = 15V/3A  (value not drawn)
WE-FB Flyback Transformer suitable for LT3748, SMT, EFD25, 30-75Vin, Uo1 = 15V/3A, 45W; Manufacturer Part Number: 750311595; Manufacturer: Wurth Elektronik; Auxiliary Voltage: 10V; Inductance: 12uH; Input Voltage: 30-75VDC; Insulation Test Voltage: 1500VAC; Leakage Inductance: 0.4uH; Output Current 1: 3A; Output Voltage 1: 15V; Saturation Current: 16A; Turns Ratio: 2:1:0.8; Category: Transformers For DC-DC Converter; Match Code: WE-FB; ComponentLink1Description: Website Link; ComponentLink1URL: https://www.we-online.com/redexpert/article/750311595?ad; ComponentLink2Description: Datasheet Link; ComponentLink2URL: https://www.we-online.com/redexpert/spec/750311595?ad; Mount: Surface Mount; Operating Temperature Max: 125°C; Operating Temperature Min: -40°C; Packaging: Tape and Reel; Case/Size Code: EFD25; Length: 32.31mm; Width: 27.03mm; Height: 13.69mm; IC Reference: LT3748; Output Power: 45W
footprint WE-FB_EFD25
simulation model 750311595
pins: 1, 2, 3, 4, 5, 6, 7, 8, 9, 10, 11, 12
text: 30-75V; 150kHz; 15V, 3A; AUX

## 750311596
designator T?, comment 30-75Vin, Uo1 = 24V/1.9A  (value not drawn)
WE-FB Flyback Transformer suitable for LT3748, SMT, EFD25, 30-75Vin, Uo1 = 24V/1.9A, 45W; Manufacturer Part Number: 750311596; Manufacturer: Wurth Elektronik; Auxiliary Voltage: 10V; Inductance: 12uH; Input Voltage: 30-75VDC; Insulation Test Voltage: 1500VAC; Leakage Inductance: 0.4uH; Output Current 1: 1.9A; Output Voltage 1: 24V; Saturation Current: 18A; Turns Ratio: 1.5:1:0.5; Category: Transformers For DC-DC Converter; Match Code: WE-FB; ComponentLink1Description: Website Link; ComponentLink1URL: https://www.we-online.com/redexpert/article/750311596?ad; ComponentLink2Description: Datasheet Link; ComponentLink2URL: https://www.we-online.com/redexpert/spec/750311596?ad; Mount: Surface Mount; Operating Temperature Max: 125°C; Operating Temperature Min: -40°C; Packaging: Tape and Reel; Case/Size Code: EFD25; Length: 32.31mm; Width: 27.03mm; Height: 13.69mm; IC Reference: LT3748; Output Power: 45W
footprint WE-FB_EFD25
simulation model 750311596
pins: 1, 2, 3, 4, 5, 6, 7, 8, 9, 10, 11, 12
text: 30-75V; 150kHz; 24V, 1.9A; AUX

## 750311597
designator T?, comment 20-48Vin, Uo1 = 5V/6A  (value not drawn)
WE-FB Flyback Transformer suitable for LT3748, SMT, EFD20, 20-48Vin, Uo1 = 5V/6A, 30W; Manufacturer Part Number: 750311597; Manufacturer: Wurth Elektronik; Auxiliary Voltage: 10V; Inductance: 6uH; Input Voltage: 20-48VDC; Insulation Test Voltage: 1500VAC; Leakage Inductance: 0.3uH; Output Current 1: 6A; Output Voltage 1: 5V; Saturation Current: 9.5A; Turns Ratio: 3:1:2; Category: Transformers For DC-DC Converter; Match Code: WE-FB; ComponentLink1Description: Website Link; ComponentLink1URL: https://www.we-online.com/redexpert/article/750311597?ad; ComponentLink2Description: Datasheet Link; ComponentLink2URL: https://www.we-online.com/redexpert/spec/750311597?ad; Mount: Surface Mount; Operating Temperature Max: 125°C; Operating Temperature Min: -40°C; Packaging: Tape and Reel; Case/Size Code: EFD20; Length: 29.08mm; Width: 23.11mm; Height: 11.43mm; IC Reference: LT3748; Output Power: 30W
footprint WE-FB_EFD20
simulation model 750311597
pins: 1, 2, 3, 4, 5, 6, 7, 8, 9, 10, 11, 12
text: 20-48V; 5V, 6A

## 750311598
designator T?, comment 20-48Vin, Uo1 = 12V/2.5A  (value not drawn)
WE-FB Flyback Transformer suitable for LT3748, SMT, EFD20, 20-48Vin, Uo1 = 12V/2.5A, 30W; Manufacturer Part Number: 750311598; Manufacturer: Wurth Elektronik; Auxiliary Voltage: 10V; Inductance: 8.3uH; Input Voltage: 20-48VDC; Insulation Test Voltage: 1500VAC; Leakage Inductance: 0.3uH; Output Current 1: 2.5A; Output Voltage 1: 12V; Saturation Current: 9A; Turns Ratio: 2:1:0.8; Category: Transformers For DC-DC Converter; Match Code: WE-FB; ComponentLink1Description: Website Link; ComponentLink1URL: https://www.we-online.com/redexpert/article/750311598?ad; ComponentLink2Description: Datasheet Link; ComponentLink2URL: https://www.we-online.com/redexpert/spec/750311598?ad; Mount: Surface Mount; Operating Temperature Max: 125°C; Operating Temperature Min: -40°C; Packaging: Tape and Reel; Case/Size Code: EFD20; Length: 29.08mm; Width: 23.11mm; Height: 11.43mm; IC Reference: LT3748; Output Power: 30W
footprint WE-FB_EFD20
simulation model 750311598
pins: 1, 2, 3, 4, 5, 6, 7, 8, 9, 10, 11, 12
text: 20-48V; 12V, 2.5A

## 750311599
designator T?, comment 20-48Vin, Uo1 = 15V/2A  (value not drawn)
WE-FB Flyback Transformer suitable for LT3748, SMT, EFD20, 20-48Vin, Uo1 = 15V/2A, 30W; Manufacturer Part Number: 750311599; Manufacturer: Wurth Elektronik; Auxiliary Voltage: 10V; Inductance: 8uH; Input Voltage: 20-48VDC; Insulation Test Voltage: 1500VAC; Leakage Inductance: 0.5uH; Output Current 1: 2A; Output Voltage 1: 15V; Saturation Current: 12A; Turns Ratio: 1.5:1:0.67; Category: Transformers For DC-DC Converter; Match Code: WE-FB; ComponentLink1Description: Website Link; ComponentLink1URL: https://www.we-online.com/redexpert/article/750311599?ad; ComponentLink2Description: Datasheet Link; ComponentLink2URL: https://www.we-online.com/redexpert/spec/750311599?ad; Mount: Surface Mount; Operating Temperature Max: 125°C; Operating Temperature Min: -40°C; Packaging: Tape and Reel; Case/Size Code: EFD20; Length: 29.08mm; Width: 23.11mm; Height: 11.43mm; IC Reference: LT3748; Output Power: 30W
footprint WE-FB_EFD20
simulation model 750311599
pins: 1, 2, 3, 4, 5, 6, 8, 9, 11, 12
text: 20-48V; 15V, 2A

## 750311600
designator T?, comment 30-75Vin, Uo1 = 15V/2A  (value not drawn)
WE-FB Flyback Transformer suitable for LT3748, SMT, EFD20, 30-75Vin, Uo1 = 15V/2A, 30W; Manufacturer Part Number: 750311600; Manufacturer: Wurth Elektronik; Auxiliary Voltage: 10V; Inductance: 12uH; Input Voltage: 30-75VDC; Insulation Test Voltage: 1500VAC; Leakage Inductance: 0.4uH; Output Current 1: 2A; Output Voltage 1: 15V; Saturation Current: 11A; Turns Ratio: 2:1:0.67; Category: Transformers For DC-DC Converter; Match Code: WE-FB; ComponentLink1Description: Website Link; ComponentLink1URL: https://www.we-online.com/redexpert/article/750311600?ad; ComponentLink2Description: Datasheet Link; ComponentLink2URL: https://www.we-online.com/redexpert/spec/750311600?ad; Mount: Surface Mount; Operating Temperature Max: 125°C; Operating Temperature Min: -40°C; Packaging: Tape and Reel; Case/Size Code: EFD20; Length: 29.08mm; Width: 23.11mm; Height: 11.43mm; IC Reference: LT3748; Output Power: 30W
footprint WE-FB_EFD20
simulation model 750311600
pins: 1, 2, 3, 4, 5, 6, 8, 9, 11, 12
text: 30-75V; 15V, 2A

## 750311604
designator T?, comment 20-48Vin, Uo1 = 24V/1.3A  (value not drawn)
WE-FB Flyback Transformer suitable for LT3748, SMT, EFD20, 20-48Vin, Uo1 = 24V/1.3A, 31W; Manufacturer Part Number: 750311604; Manufacturer: Wurth Elektronik; Auxiliary Voltage: 10V; Inductance: 8uH; Input Voltage: 20-48VDC; Insulation Test Voltage: 1500VAC; Leakage Inductance: 0.4uH; Output Current 1: 1.3A; Output Voltage 1: 24V; Saturation Current: 9.5A; Turns Ratio: 1:1:0.42; Category: Transformers For DC-DC Converter; Match Code: WE-FB; ComponentLink1Description: Website Link; ComponentLink1URL: https://www.we-online.com/redexpert/article/750311604?ad; ComponentLink2Description: Datasheet Link; ComponentLink2URL: https://www.we-online.com/redexpert/spec/750311604?ad; Mount: Surface Mount; Operating Temperature Max: 125°C; Operating Temperature Min: -40°C; Packaging: Tape and Reel; Case/Size Code: EFD20; Length: 29.08mm; Width: 23.11mm; Height: 11.43mm; IC Reference: LT3748; Output Power: 31W
footprint WE-FB_EFD20
simulation model 750311604
pins: 1, 2, 3, 4, 5, 6, 8, 9, 11, 12
text: 20-48V; 24V, 1.3A

## 750311605
designator T?, comment 30-75Vin, Uo1 = 5V/6A  (value not drawn)
WE-FB Flyback Transformer suitable for LT3748, SMT, EFD20, 30-75Vin, Uo1 = 5V/6A, 30W; Manufacturer Part Number: 750311605; Manufacturer: Wurth Elektronik; Auxiliary Voltage: 10V; Inductance: 15uH; Input Voltage: 30-75VDC; Insulation Test Voltage: 1500VAC; Leakage Inductance: 0.55uH; Output Current 1: 6A; Output Voltage 1: 5V; Saturation Current: 9.5A; Turns Ratio: 3.5:1:2; Category: Transformers For DC-DC Converter; Match Code: WE-FB; ComponentLink1Description: Website Link; ComponentLink1URL: https://www.we-online.com/redexpert/article/750311605?ad; ComponentLink2Description: Datasheet Link; ComponentLink2URL: https://www.we-online.com/redexpert/spec/750311605?ad; Mount: Surface Mount; Operating Temperature Max: 125°C; Operating Temperature Min: -40°C; Packaging: Tape and Reel; Case/Size Code: EFD20; Length: 29.08mm; Width: 23.11mm; Height: 11.43mm; IC Reference: LT3748; Output Power: 30W
footprint WE-FB_EFD20
simulation model 750311605
pins: 1, 2, 3, 4, 5, 6, 7, 8, 9, 10, 11, 12
text: 30-75V; 5V, 6A

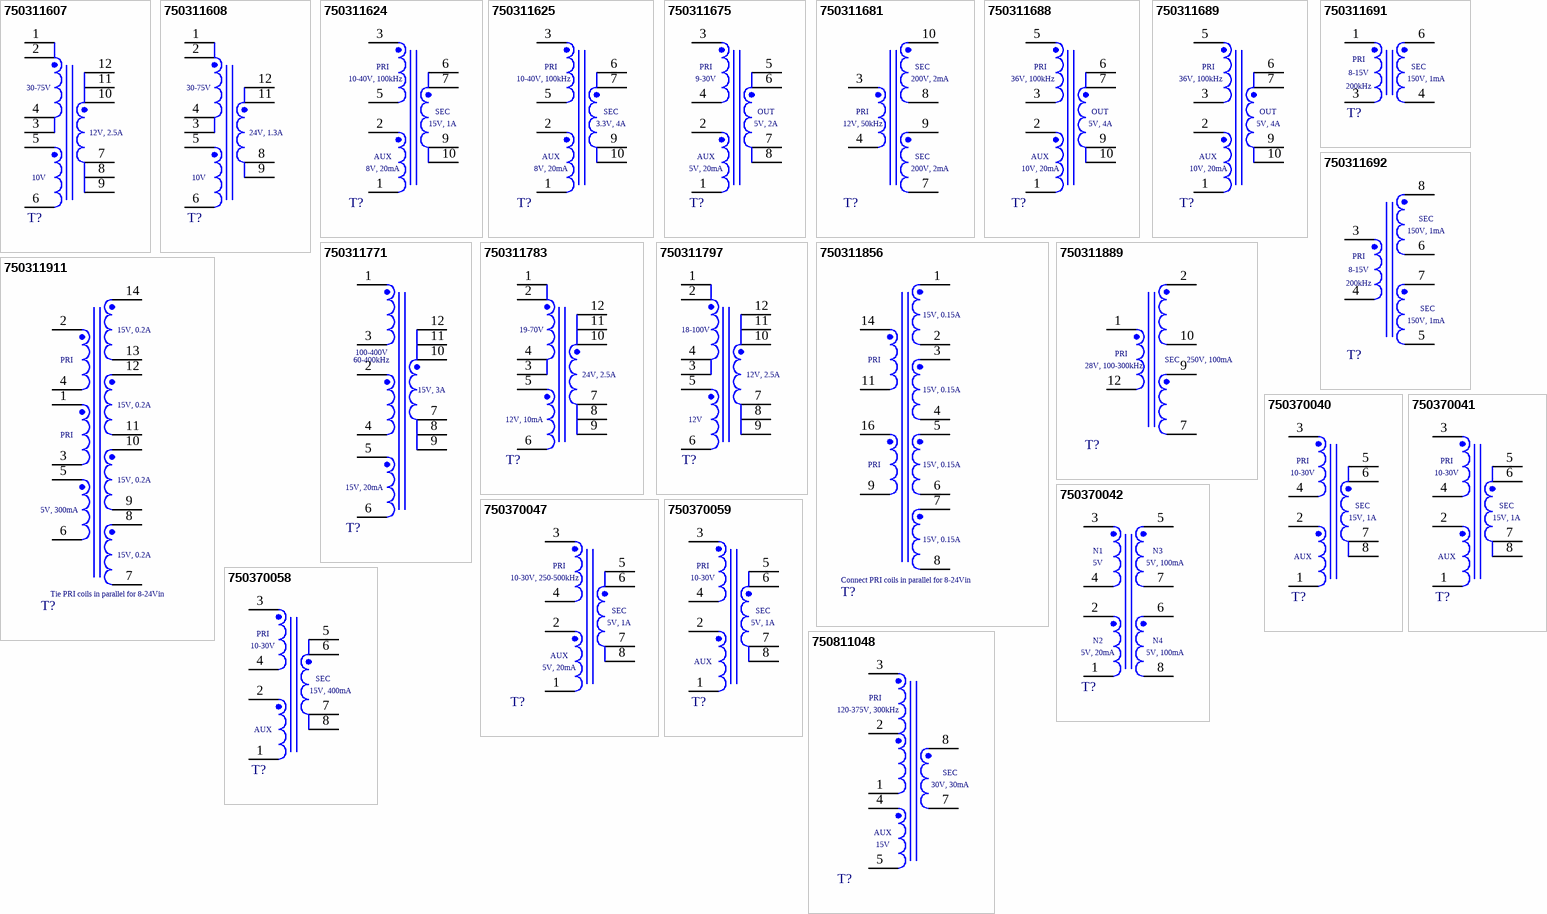
[diagram p1: symbols 750311607 to 750811048]

## 750311607
designator T?, comment 30-75Vin, Uo1 = 12V/2.5A  (value not drawn)
WE-FB Flyback Transformer suitable for LT3748, SMT, EFD20, 30-75Vin, Uo1 = 12V/2.5A, 30W; Manufacturer Part Number: 750311607; Manufacturer: Wurth Elektronik; Auxiliary Voltage: 10V; Inductance: 14uH; Input Voltage: 30-75VDC; Insulation Test Voltage: 1500VAC; Leakage Inductance: 0.5uH; Output Current 1: 2.5A; Output Voltage 1: 12V; Saturation Current: 9.5A; Turns Ratio: 2.5:1:0.83; Category: Transformers For DC-DC Converter; Match Code: WE-FB; ComponentLink1Description: Website Link; ComponentLink1URL: https://www.we-online.com/redexpert/article/750311607?ad; ComponentLink2Description: Datasheet Link; ComponentLink2URL: https://www.we-online.com/redexpert/spec/750311607?ad; Mount: Surface Mount; Operating Temperature Max: 125°C; Operating Temperature Min: -40°C; Packaging: Tape and Reel; Case/Size Code: EFD20; Length: 29.08mm; Width: 23.11mm; Height: 11.43mm; IC Reference: LT3748; Output Power: 30W
footprint WE-FB_EFD20
simulation model 750311607
pins: 1, 2, 3, 4, 5, 6, 7, 8, 9, 10, 11, 12
text: 30-75V; 12V, 2.5A

## 750311608
designator T?, comment 30-75Vin, Uo1 = 24V/1.3A  (value not drawn)
WE-FB Flyback Transformer suitable for LT3748, SMT, EFD20, 30-75Vin, Uo1 = 24V/1.3A, 30W; Manufacturer Part Number: 750311608; Manufacturer: Wurth Elektronik; Auxiliary Voltage: 10V; Inductance: 12uH; Input Voltage: 30-75VDC; Insulation Test Voltage: 1500VAC; Leakage Inductance: 1uH; Output Current 1: 1.3A; Output Voltage 1: 24V; Saturation Current: 9A; Turns Ratio: 1.5:1:0.5; Category: Transformers For DC-DC Converter; Match Code: WE-FB; ComponentLink1Description: Website Link; ComponentLink1URL: https://www.we-online.com/redexpert/article/750311608?ad; ComponentLink2Description: Datasheet Link; ComponentLink2URL: https://www.we-online.com/redexpert/spec/750311608?ad; Mount: Surface Mount; Operating Temperature Max: 125°C; Operating Temperature Min: -40°C; Packaging: Tape and Reel; Case/Size Code: EFD20; Length: 29.08mm; Width: 23.11mm; Height: 11.43mm; IC Reference: LT3748; Output Power: 30W
footprint WE-FB_EFD20
simulation model 750311608
pins: 1, 2, 3, 4, 5, 6, 8, 9, 11, 12
text: 30-75V; 24V, 1.3A

## 750311624
designator T?, comment 10-40Vin, Uo1 = 15V/1A  (value not drawn)
WE-FB Flyback Transformer suitable for LT3575 & LT3748, SMT, EP13, 10-40Vin, Uo1 = 15V/1A, 15W; Manufacturer Part Number: 750311624; Manufacturer: Wurth Elektronik; Auxiliary Voltage: 8V; Inductance: 9uH; Input Voltage: 10-40VDC; Insulation Test Voltage: 1500VAC; Leakage Inductance: 0.25uH; Output Current 1: 1A; Output Voltage 1: 15V; Saturation Current: 8A; Turns Ratio: 1.5:1:0.5; Category: Transformers For DC-DC Converter; Match Code: WE-FB; ComponentLink1Description: Website Link; ComponentLink1URL: https://www.we-online.com/redexpert/article/750311624?ad; ComponentLink2Description: Datasheet Link; ComponentLink2URL: https://www.we-online.com/redexpert/spec/750311624?ad; Mount: Surface Mount; Operating Temperature Max: 125°C; Operating Temperature Min: -40°C; Packaging: Tape and Reel; Case/Size Code: EP13; Length: 17.75mm; Width: 13.46mm; Height: 12.7mm; IC Reference: LT3575 & LT3748; Output Power: 15W
footprint WE-FB_EP13
simulation model 750311624
pins: 1, 2, 3, 5, 6, 7, 9, 10
text: 10-40V, 100kHz; PRI; SEC; 15V, 1A; AUX; 8V, 20mA

## 750311625
designator T?, comment 10-40Vin, Uo1 = 3.3V/4A  (value not drawn)
WE-FB Flyback Transformer suitable for LT3575 & LT3748, SMT, EP13, 10-40Vin, Uo1 = 3.3V/4A, 13W; Manufacturer Part Number: 750311625; Manufacturer: Wurth Elektronik; Auxiliary Voltage: 8V; Inductance: 9uH; Input Voltage: 10-40VDC; Insulation Test Voltage: 1500VAC; Leakage Inductance: 0.5uH; Output Current 1: 4A; Output Voltage 1: 3.3V; Saturation Current: 8A; Turns Ratio: 4:1:2.2; Category: Transformers For DC-DC Converter; Match Code: WE-FB; ComponentLink1Description: Website Link; ComponentLink1URL: https://www.we-online.com/redexpert/article/750311625?ad; ComponentLink2Description: Datasheet Link; ComponentLink2URL: https://www.we-online.com/redexpert/spec/750311625?ad; Mount: Surface Mount; Operating Temperature Max: 125°C; Operating Temperature Min: -40°C; Packaging: Tape and Reel; Case/Size Code: EP13; Length: 17.75mm; Width: 13.46mm; Height: 12.7mm; IC Reference: LT3575 & LT3748; Output Power: 13W
footprint WE-FB_EP13
simulation model 750311625
pins: 1, 2, 3, 5, 6, 7, 9, 10
text: 10-40V, 100kHz; PRI; SEC; 3.3V, 4A; AUX; 8V, 20mA

## 750311675
designator T?, comment 9-30Vin, Uo1 = 5V/2A  (value not drawn)
WE-FB Flyback Transformer suitable for LT3573 & LT3575 & LT3748, SMT, EP10, 9-30Vin, Uo1 = 5V/2A, 10W; Manufacturer Part Number: 750311675; Manufacturer: Wurth Elektronik; Auxiliary Voltage: 5V; Inductance: 25uH; Input Voltage: 9-30VDC; Insulation Test Voltage: 1500VAC; Leakage Inductance: 0.25uH; Output Current 1: 2A; Saturation Current: 2.5A; Turns Ratio: 3:1:1; Category: Transformers For DC-DC Converter; Match Code: WE-FB; ComponentLink1Description: Website Link; ComponentLink1URL: https://www.we-online.com/redexpert/article/750311675?ad; ComponentLink2Description: Datasheet Link; ComponentLink2URL: https://www.we-online.com/redexpert/spec/750311675?ad; Mount: Surface Mount; Operating Temperature Max: 125°C; Operating Temperature Min: -40°C; Packaging: Tape and Reel; Case/Size Code: EP10; Length: 15.24mm; Width: 13.34mm; Height: 11.43mm; IC Reference: LT3573 & LT3575 & LT3748; Output Power: 10W; Output Voltage 1: 5V
footprint WE-FB_EP10
simulation model 750311675
pins: 1, 2, 3, 4, 5, 6, 7, 8
text: PRI; 9-30V; OUT; 5V, 2A; AUX; 5V, 20mA

## 750311681
designator T?, comment 12Vin, Uo1 = 200V/0.002A, Uo2 = 200V/0.002A  (value not drawn)
WE-FB Flyback Transformer suitable for LT3748, SMT, EP13, 12Vin, Uo1 = 200V/0.002A, Uo2 = 200V/0.002A, 0.8W; Manufacturer Part Number: 750311681; Manufacturer: Wurth Elektronik; Inductance: 100uH; Input Voltage: 12VDC; Insulation Test Voltage: 1500VAC; Leakage Inductance: 3uH; Output Current 1: 0.002A; Output Voltage 1: 200V; Saturation Current: 2A; Turns Ratio: 1:10:10; Category: Transformers For DC-DC Converter; Match Code: WE-FB; ComponentLink1Description: Website Link; ComponentLink1URL: https://www.we-online.com/redexpert/article/750311681?ad; ComponentLink2Description: Datasheet Link; ComponentLink2URL: https://www.we-online.com/redexpert/spec/750311681?ad; Mount: Surface Mount; Operating Temperature Max: 125°C; Operating Temperature Min: -40°C; Packaging: Tape and Reel; Case/Size Code: EP13; Length: 17.75mm; Width: 13.46mm; Height: 12.7mm; IC Reference: LT3748; Output Current 2: 0.002A; Output Power: 0.8W; Output Voltage 2: 200V
footprint WE-FB_EP13
simulation model 750311681
pins: 3, 4, 7, 8, 9, 10
text: SEC; 200V, 2mA; PRI; 12V, 50kHz